# Altium schematic symbol library 532610971.SchLib: 1 symbol
Pins are listed as number, name and electrical type; pins without a type are passive.

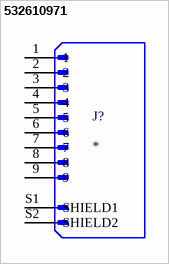
[diagram p0: symbol 532610971]

## 532610971
designator J?
MP: 532610971; Price: None; Value: *; Availability: Unavailable; Package: None
footprint MOLEX_532610971
pins: 1, 2, 3, 4, 5, 6, 7, 8, 9, S1 SHIELD1, S2 SHIELD2